# Altium integrated library ShroudedHeader2x5.IntLib: 1 symbol
Pins are listed as number, name and electrical type; pins without a type are passive.

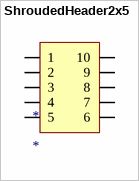
[diagram p0: symbol ShroudedHeader2x5]

## ShroudedHeader2x5
designator *
footprint ShroudedHeader2x5
pins: 1, 2, 3, 4, 5, 6, 7, 8, 9, 10